# Altium schematic symbol library XTAL_1-3_GND.SchLib: 1 symbol
Pins are listed as number, name and electrical type; pins without a type are passive.

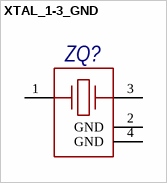
[diagram p0: symbol XTAL_1-3_GND]

## XTAL_1-3_GND
designator ZQ?, comment Кварцевый резонатор  (value not drawn)
Кварцевый резонатор в четырёхногом корпусе
pins: 1, 2 GND, 3, 4 GND